# EAGLE library part P8X32A-D40 (library trafshlib)
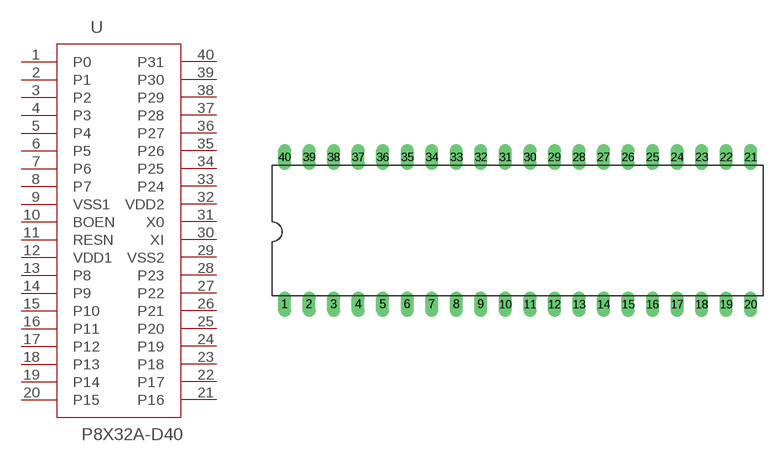
[diagram p1: symbol with the pads of DIL40; footprint DIL40]

Designator prefix U

## P8X32A-D40  [DIL40]
1  P0
2  P1
3  P2
4  P3
5  P4
6  P5
7  P6
8  P7
9  VSS1  pwr
10  BOEN
11  RESN
12  VDD1  pwr
13  P8
14  P9
15  P10
16  P11
17  P12
18  P13
19  P14
20  P15
21  P16
22  P17
23  P18
24  P19
25  P20
26  P21
27  P22
28  P23
29  VSS2  pwr
30  XI
31  X0
32  VDD2  pwr
33  P24
34  P25
35  P26
36  P27
37  P28
38  P29
39  P30
40  P31

## Footprint DIL40 (pad centres in mm)
Dual In Line Package
drill 0.813 long: 1 -24.13,-7.62; 2 -21.59,-7.62; 3 -19.05,-7.62; 4 -16.51,-7.62; 5 -13.97,-7.62; 6 -11.43,-7.62; 7 -8.89,-7.62; 8 -6.35,-7.62; 9 -3.81,-7.62; 10 -1.27,-7.62; 11 1.27,-7.62; 12 3.81,-7.62; 13 6.35,-7.62; 14 8.89,-7.62; 15 11.43,-7.62; 16 13.97,-7.62; 17 16.51,-7.62; 18 19.05,-7.62; 19 21.59,-7.62; 20 24.13,-7.62; 21 24.13,7.62; 22 21.59,7.62; 23 19.05,7.62; 24 16.51,7.62; 25 13.97,7.62; 26 11.43,7.62; 27 8.89,7.62; 28 6.35,7.62; 29 3.81,7.62; 30 1.27,7.62; 31 -1.27,7.62; 32 -3.81,7.62; 33 -6.35,7.62; 34 -8.89,7.62; 35 -11.43,7.62; 36 -13.97,7.62; 37 -16.51,7.62; 38 -19.05,7.62; 39 -21.59,7.62; 40 -24.13,7.62